# Altium schematic symbol library MORNSUN.SchLib: 3 symbols
Pins are listed as number, name and electrical type; pins without a type are passive.

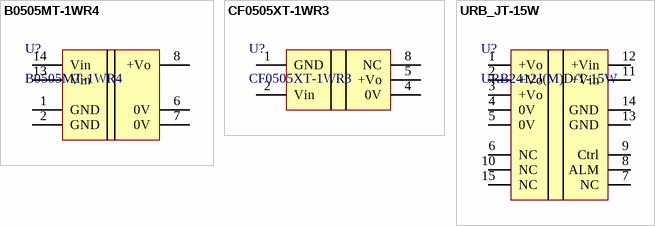
[diagram p0: symbols B0505MT-1WR4 to URB_JT-15W]

## B0505MT-1WR4
designator U?
1W，定电压输入，隔离非稳压单路输出; Revised By: *; ComponentLink1Description: Datasheet; ComponentLink1URL: https://www.mornsun.cn/html/pdf/B0505MT-1WR4.html
footprint B-MT-1WR4
pins: 1 GND, 2 GND, 6 0V, 7 0V, 8 +Vo, 13 Vin, 14 Vin

## CF0505XT-1WR3
designator U?
1W，定电压输入，隔离非稳压单路输出; Revised By: Z_xiao; ComponentLink1Description: Datasheet; ComponentLink1URL: https://www.mornsun.cn/html/pdf/CF0505XT-1WR3.html
footprint F0505XT-W2R3
pins: 1 GND, 2 Vin, 4 0V, 5 +Vo, 8 NC

## URB_JT-15W
designator U?, comment URB2412J(M)D/T-15W
15W，超宽电压输入，隔离稳压单路输出 / DIP/SMD 封装，DC-DC 模块电源
footprint URB_JT-15W
footprint URB_JT-15W - bottom
pins: 1 +Vo, 2 +Vo, 3 +Vo, 4 0V, 5 0V (oe), 6 NC (oe), 7 NC (oe), 8 ALM, 9 Ctrl (oe), 10 NC (oe), 11 +Vin, 12 +Vin, 13 GND, 14 GND, 15 NC (oe)